# Altium schematic symbol library SI4435DDY.SchLib: 1 symbol
Pins are listed as number, name and electrical type; pins without a type are passive.

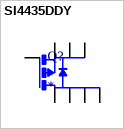
[diagram p0: symbol SI4435DDY]

## SI4435DDY
designator Q?
pins: 1 S@1, 2 S@2, 3 S@3, 4 G, 5 D@1, 6 D@2, 7 D@3, 8 D@4